# EAGLE library part RGB-5252 (library led_rgb)
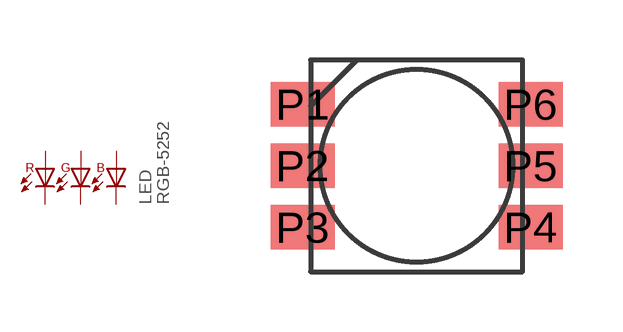
[diagram p0: symbol with the pads of SMD_5252; footprint SMD_5252]

Designator prefix LED

## RGB-5252  [SMD_5252]
P1  ABLUE  pas
P2  ARED  pas
P3  AGREEN  pas
P4  CGREEN  pas
P5  CRED  pas
P6  CBLUE  pas

## Footprint SMD_5252 (pad centres in mm)
smd 1.6 x 1.116: P1 -2.85,1.54; P2 -2.85,0; P3 -2.85,-1.54; P4 2.85,-1.54; P5 2.85,0; P6 2.85,1.54